# EAGLE library part LTC3419 (library power)
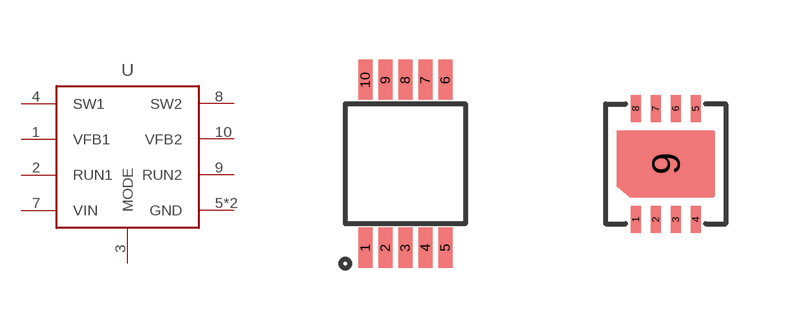
[diagram p0: symbol with the pads of MSOP10; footprints MSOP10, DFN8]

Designator prefix U

## LTC3419MSOP  [MSOP10]
1  VFB1
2  RUN1
3  MODE
4  SW1
5  GND
6  GND
7  VIN
8  SW2
9  RUN2
10  VFB2

## LTC3419DFN  [DFN8]
1  VFB1
2  RUN1
3  MODE
4  SW1
5  VIN
6  SW2
7  RUN2
8  VFB2
9  GND

## Footprint MSOP10 (pad centres in mm)
smd 0.35 x 1: 1 -1,-2.1; 2 -0.5,-2.1; 3 0,-2.1; 4 0.5,-2.1; 5 1,-2.1; 6 1,2.1; 7 0.5,2.1; 8 0,2.1; 9 -0.5,2.1; 10 -1,2.1

## Footprint DFN8 (pad centres in mm)
smd 0.25 x 0.68: 1 -0.75,-1.39; 2 -0.25,-1.39; 3 0.25,-1.39; 4 0.75,-1.39; 5 0.75,1.39; 6 0.25,1.39; 7 -0.25,1.39; 8 -0.75,1.39
smd 1 x 1: 9 0,0